# Altium schematic symbol library Operational Amplifier.SchLib: 8 symbols
Pins are listed as number, name and electrical type; pins without a type are passive.

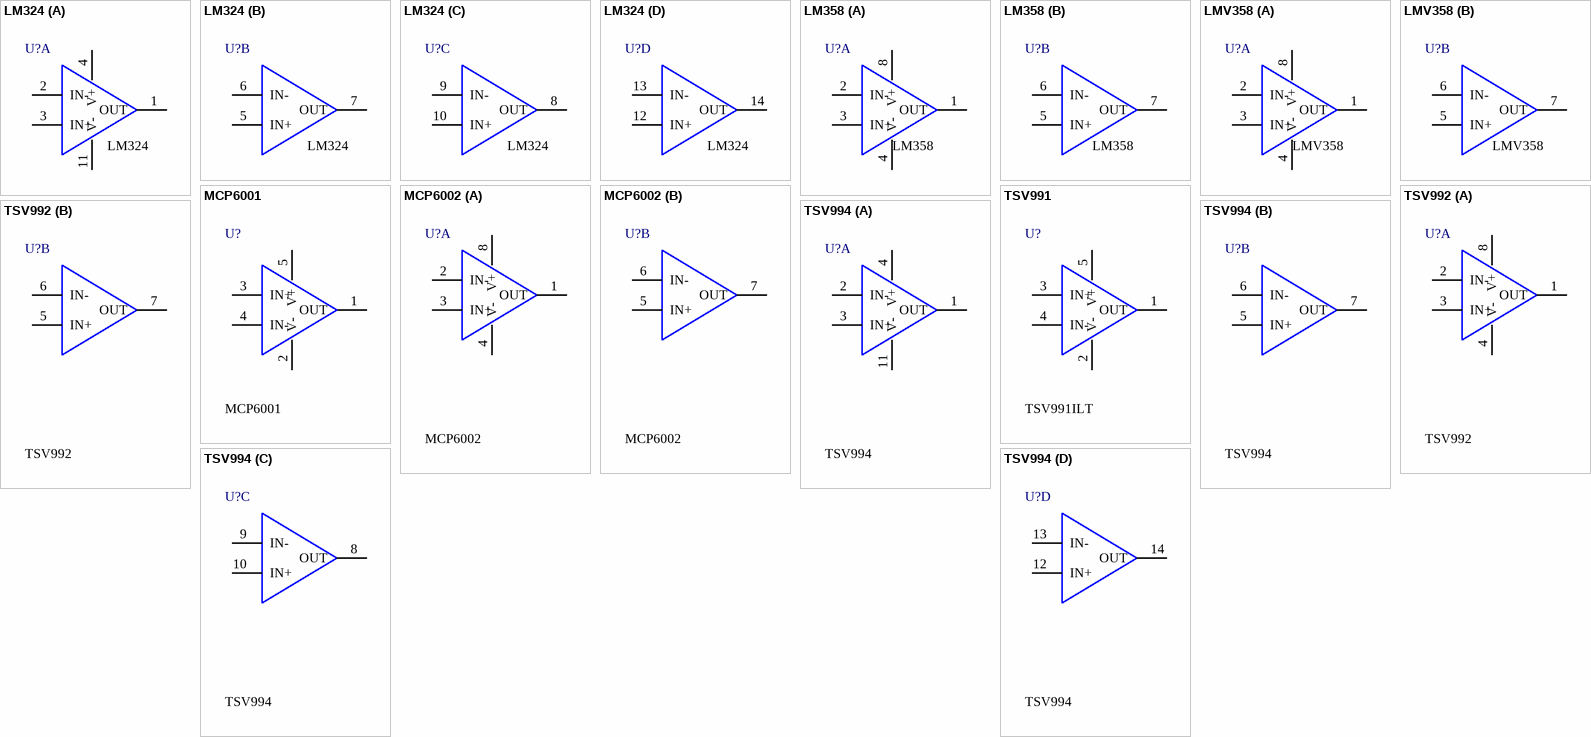
[diagram p0: symbols LM324 to TSV994]

## LM324
designator U?  Global part number: LM324
Operational Amplifier; Manufacture: Texas Instruments; Mount type: SMT; Size: SOIC-14; Series: Operational Amplifier
footprint SOIC-14 150MIL
part A pins: 1 OUT, 2 IN-, 3 IN+, 4 V+, 11 V-
part B pins: 5 IN+, 6 IN-, 7 OUT
part C pins: 8 OUT, 9 IN-, 10 IN+
part D pins: 12 IN+, 13 IN-, 14 OUT

## LM358
designator U?  Global part number: LM358
Operational Amplifier; Manufacture: Texas Instruments; Mount type: SMT; Size: SOIC-8; Series: Operational Amplifier
footprint SOIC-8 150mil
part A pins: 1 OUT, 2 IN-, 3 IN+, 4 V-, 8 V+
part B pins: 5 IN+, 6 IN-, 7 OUT

## LMV358
designator U?  Global part number: LMV358
Operational Amplifier; Manufacture: Texas Instruments; Mount type: SMT; Size: SOIC-8; Series: Operational Amplifier
footprint SOIC-8 150mil
part A pins: 1 OUT, 2 IN-, 3 IN+, 4 V-, 8 V+
part B pins: 5 IN+, 6 IN-, 7 OUT

## MCP6001
designator U?  Global part number: MCP6001
Operational Amplifier; Mount type: SMT; Series: Operational Amplifier; Size: SOT23-5
footprint SOT23-5
pins: 1 OUT, 2 V-, 3 IN+, 4 IN-, 5 V+
1 alternate drawing of the same symbol

## MCP6002
designator U?  Global part number: MCP6002
Operational Amplifier; Manufacture: MICROCHIP; Mount type: SMT; Size: SOIC-8; Series: Operational Amplifier
footprint SOIC-8 150mil
part A pins: 1 OUT, 2 IN-, 3 IN+, 4 V-, 8 V+
part B pins: 5 IN+, 6 IN-, 7 OUT

## TSV991
designator U?  Global part number: TSV991ILT
Operational Amplifier; Manufacture: STMicroelectronics; Mount type: SMT; Series: Operational Amplifier; Size: SOT23-5
footprint SOT23-5
pins: 1 OUT, 2 V-, 3 IN+, 4 IN-, 5 V+
1 alternate drawing of the same symbol

## TSV992
designator U?  Global part number: TSV992
Operational Amplifier; Manufacture: STMicroelectronics; Mount type: SMT; Size: SOIC-8; Series: Operational Amplifier
footprint SOIC-8 150mil
part A pins: 1 OUT, 2 IN-, 3 IN+, 4 V-, 8 V+
part B pins: 5 IN+, 6 IN-, 7 OUT

## TSV994
designator U?  Global part number: TSV994
Operational Amplifier; Manufacture: STMicroelectronics; Mount type: SMT; Size: SOIC-14; Series: Operational Amplifier
footprint SOIC-14 150MIL
part A pins: 1 OUT, 2 IN-, 3 IN+, 4 V+, 11 V-
part B pins: 5 IN+, 6 IN-, 7 OUT
part C pins: 8 OUT, 9 IN-, 10 IN+
part D pins: 12 IN+, 13 IN-, 14 OUT